# Altium footprint library CONN_PLx.PcbLib: 58 footprints (part 4 of 4)
Each footprint in its own frame and in the unit in brackets; x right, y up, seen from the top. Pads: shape width x height; smd on the part's side, far side on the other; paste and mask are expansions set on the pad; w line width, h text height; cw(c..) or ccw(c..) is an arc to the next point about the centre after c.
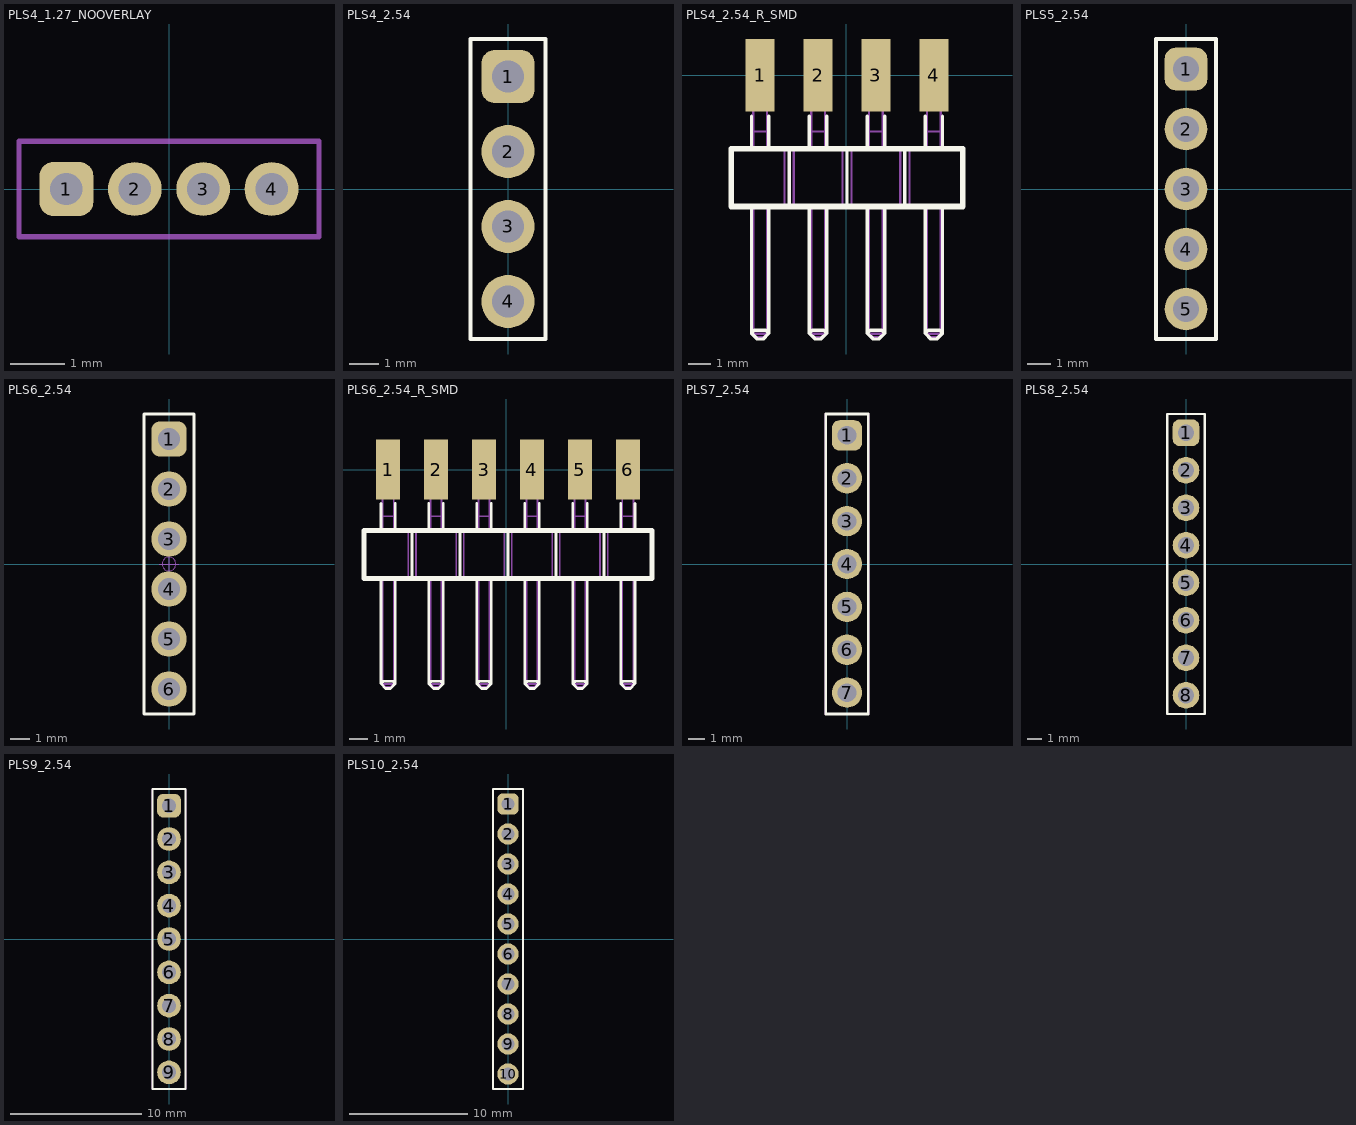
[diagram p3: the footprints below, top view; thin cyan lines are the x and y axes]

## PLS4_1.27_NOOVERLAY [mm]
pads (4):
  rrect50% 1x1 hole 0.6: 1(-1.905,0)
  round 1 hole 0.6: 2(-0.635,0) 3(0.635,0) 4(1.905,0)
Mechanical 14:
  lines w0.1: -2.785,-0.889 2.785,-0.889 2.785,0.889 -2.785,0.889 -2.785,-0.889
  text ".Designator" at -1.905,-0.381 h0.7

## PLS4_2.54 [mm]
pads (4):
  rrect50% 1.8x1.8 hole 1.1: 1(0,3.81)
  round 1.8 hole 1.1: 2(0,1.27) 3(0,-1.27) 4(0,-3.81)
Top Overlay:
  lines w0.15: -1.27,-5.08 -1.27,5.08 1.27,5.08 1.27,-5.08 -1.27,-5.08
Mechanical 14:
  lines w0.1: -1.27,-5.08 1.27,-5.08 1.27,5.08 -1.27,5.08 -1.27,-5.08
  text ".Designator" at -0.508,-0.254 h0.7
3D body "User Library-PLS-1.STEP": height 8.44, standoff -3, extent -1.27,-5.08 1.27,-2.54
3D body "User Library-PLS-1.STEP": height 8.44, standoff -3, extent -1.27,-2.54 1.27,0
3D body "User Library-PLS-1.STEP": height 8.44, standoff -3, extent -1.27,0 1.27,2.54
3D body "User Library-PLS-1.STEP": height 8.44, standoff -3, extent -1.27,2.54 1.27,5.08

## PLS4_2.54_R_SMD [mm] "Pin List, 2.54mm, Surface Mount, Angled"
height 3.05
pads (4):
  rect 1.27x3.18 smd: 1(-3.77,0) 2(-1.23,0) 3(1.31,0) 4(3.85,0)
Top Overlay:
  lines w0.15: -4.151,-5.766 -4.151,-11.324 ; -4.151,-3.226 -4.151,-1.8 ; -3.389,-5.766 -3.389,-11.324 ; -3.389,-3.226 -3.389,-1.8 ; -2.5,-5.766 -2.5,-3.226 ; -1.611,-5.766 -1.611,-11.324 ; -1.611,-3.226 -1.611,-1.8 ; -0.849,-5.766 -0.849,-11.324 ; -0.849,-3.226 -0.849,-1.8 ; 0.04,-5.766 0.04,-3.226 ; 0.929,-5.766 0.929,-11.324 ; 0.929,-3.226 0.929,-1.8 ; 1.691,-5.766 1.691,-11.324 ; 1.691,-3.226 1.691,-1.8 ; 2.58,-5.766 2.58,-3.226 ; 3.469,-5.766 3.469,-11.324 ; 3.469,-3.226 3.469,-1.8 ; 4.231,-5.766 4.231,-11.324 ; 4.231,-3.226 4.231,-1.8 ; -4.151,-11.324 -3.897,-11.578 -3.643,-11.578 -3.389,-11.324 ; -4.151,-11.324 -4.024,-11.197 -3.516,-11.197 -3.389,-11.324 ; -1.611,-11.324 -1.357,-11.578 -1.103,-11.578 -0.849,-11.324 ; -1.611,-11.324 -1.484,-11.197 -0.976,-11.197 -0.849,-11.324 ; 0.929,-11.324 1.183,-11.578 1.437,-11.578 1.691,-11.324 ; 0.929,-11.324 1.056,-11.197 1.564,-11.197 1.691,-11.324 ; 3.469,-11.324 3.723,-11.578 3.977,-11.578 4.231,-11.324 ; 3.469,-11.324 3.596,-11.197 4.104,-11.197 4.231,-11.324
  lines w0.254: -5.04,-5.766 -5.04,-3.226 5.12,-3.226 5.12,-5.766 -5.04,-5.766
Mechanical 15:
  lines w0.1: -4.07,-5.766 -4.07,-11.347 ; -4.07,-3.226 -4.07,0.85 ; -4.07,-2.466 -3.47,-2.466 ; -4.07,-0.464 -3.47,-0.464 ; -3.47,-5.766 -3.47,-11.347 ; -3.47,-3.226 -3.47,0.85 ; -2.7,-5.766 -2.7,-3.226 ; -2.3,-5.766 -2.3,-3.226 ; -1.53,-5.766 -1.53,-11.347 ; -1.53,-3.226 -1.53,0.85 ; -1.53,-2.466 -0.93,-2.466 ; -1.53,-0.464 -0.93,-0.464 ; -0.93,-5.766 -0.93,-11.347 ; -0.93,-3.226 -0.93,0.85 ; -0.16,-5.766 -0.16,-3.226 ; 0.24,-5.766 0.24,-3.226 ; 1.01,-5.766 1.01,-11.347 ; 1.01,-3.226 1.01,0.85 ; 1.01,-2.466 1.61,-2.466 ; 1.01,-0.464 1.61,-0.464 ; 1.61,-5.766 1.61,-11.347 ; 1.61,-3.226 1.61,0.85 ; 2.38,-5.766 2.38,-3.226 ; 2.78,-5.766 2.78,-3.226 ; 3.55,-5.766 3.55,-11.347 ; 3.55,-3.226 3.55,0.85 ; 3.55,-2.466 4.15,-2.466 ; 3.55,-0.464 4.15,-0.464 ; 4.15,-5.766 4.15,-11.347 ; 4.15,-3.226 4.15,0.85 ; -4.07,-11.347 -3.47,-11.347 ; -4.07,-11.347 -3.92,-11.497 -3.62,-11.497 -3.47,-11.347 ; -4.07,0.85 -3.47,0.85 ; -4.07,0.85 -3.92,1 -3.62,1 -3.47,0.85 ; -1.53,-11.347 -0.93,-11.347 ; -1.53,-11.347 -1.38,-11.497 -1.08,-11.497 -0.93,-11.347 ; -1.53,0.85 -0.93,0.85 ; -1.53,0.85 -1.38,1 -1.08,1 -0.93,0.85 ; 1.01,-11.347 1.61,-11.347 ; 1.01,-11.347 1.16,-11.497 1.46,-11.497 1.61,-11.347 ; 1.01,0.85 1.61,0.85 ; 1.01,0.85 1.16,1 1.46,1 1.61,0.85 ; 3.55,-11.347 4.15,-11.347 ; 3.55,-11.347 3.7,-11.497 4,-11.497 4.15,-11.347 ; 3.55,0.85 4.15,0.85 ; 3.55,0.85 3.7,1 4,1 4.15,0.85 ; -5.04,-5.766 5.12,-5.766 5.12,-3.226 -5.04,-3.226 -5.04,-5.766
  text ".Designator" at -3.604,-4.959 h0.38
3D body "Samtec-TSM-102-01-L-SH-A.step": height 3.03, standoff -1.41, extent -5.06,-11.605 0.02,1.349
3D body "Samtec-TSM-102-01-L-SH-A.step": height 3.03, standoff -1.41, extent 0.02,-11.605 5.1,1.349

## PLS5_2.54 [mm]
pads (5):
  rrect50% 1.8x1.8 hole 1.1: 1(0,5.08)
  round 1.8 hole 1.1: 2(0,2.54) 3(0,0) 4(0,-2.54) 5(0,-5.08)
Top Overlay:
  lines w0.15: -1.27,-6.35 1.27,-6.35 1.27,6.35 -1.27,6.35 -1.27,-6.35
Mechanical 14:
  lines w0.1: -1.27,-6.35 -1.27,6.35 1.27,6.35 1.27,-6.35 -1.27,-6.35
  text ".Designator" at -0.508,-0.762 h0.7
3D body "User Library-PLS-1.STEP": height 8.44, standoff -3, extent -1.27,-6.35 1.27,-3.81
3D body "User Library-PLS-1.STEP": height 8.44, standoff -3, extent -1.27,3.81 1.27,6.35
3D body "User Library-PLS-1.STEP": height 8.44, standoff -3, extent -1.27,1.27 1.27,3.81
3D body "User Library-PLS-1.STEP": height 8.44, standoff -3, extent -1.27,-1.27 1.27,1.27
3D body "User Library-PLS-1.STEP": height 8.44, standoff -3, extent -1.27,-3.81 1.27,-1.27

## PLS6_2.54 [mm]
pads (6):
  rrect50% 1.8x1.8 hole 1.1: 1(0,6.35)
  round 1.8 hole 1.1: 2(0,3.81) 3(0,1.27) 4(0,-1.27) 5(0,-3.81) 6(0,-6.35)
Top Overlay:
  lines w0.15: -1.27,-7.62 -1.27,7.62 1.27,7.62 1.27,-7.62 -1.27,-7.62
Mechanical 14:
  lines w0.1: -1.27,-7.62 1.27,-7.62 1.27,7.62 -1.27,7.62 -1.27,-7.62
  text ".Designator" at -0.508,-0.254 h0.7
Mechanical 15:
  circle w0.05: c0,0 r0.35
  lines w0.05: -0.5,0 0.5,0 ; 0,-0.46 0,0.46 ; -1.27,-7.62 1.27,-7.62 1.27,7.62 -1.27,7.62 -1.27,-7.62
3D body "User Library-PLS-1.STEP": height 8.44, standoff -3, extent -1.27,-2.54 1.27,0
3D body "User Library-PLS-1.STEP": height 8.44, standoff -3, extent -1.27,0 1.27,2.54
3D body "User Library-PLS-1.STEP": height 8.44, standoff -3, extent -1.27,2.54 1.27,5.08
3D body "User Library-PLS-1.STEP": height 8.44, standoff -3, extent -1.27,5.08 1.27,7.62
3D body "User Library-PLS-1.STEP": height 8.44, standoff -3, extent -1.27,-5.08 1.27,-2.54
3D body "User Library-PLS-1.STEP": height 8.44, standoff -3, extent -1.27,-7.62 1.27,-5.08

## PLS6_2.54_R_SMD [mm] "Pin List, 2.54mm, Surface Mount, Angled"
height 3.05
pads (6):
  rect 1.27x3.18 smd: 1(-6.27,0) 2(-3.73,0) 3(-1.19,0) 4(1.35,0) 5(3.89,0) 6(6.43,0)
Top Overlay:
  lines w0.15: -6.651,-5.766 -6.651,-11.324 ; -6.651,-3.226 -6.651,-1.8 ; -5.889,-5.766 -5.889,-11.324 ; -5.889,-3.226 -5.889,-1.8 ; -5,-5.766 -5,-3.226 ; -4.111,-5.766 -4.111,-11.324 ; -4.111,-3.226 -4.111,-1.8 ; -3.349,-5.766 -3.349,-11.324 ; -3.349,-3.226 -3.349,-1.8 ; -2.46,-5.766 -2.46,-3.226 ; -1.571,-5.766 -1.571,-11.324 ; -1.571,-3.226 -1.571,-1.8 ; -0.809,-5.766 -0.809,-11.324 ; -0.809,-3.226 -0.809,-1.8 ; 0.08,-5.766 0.08,-3.226 ; 0.969,-5.766 0.969,-11.324 ; 0.969,-3.226 0.969,-1.8 ; 1.731,-5.766 1.731,-11.324 ; 1.731,-3.226 1.731,-1.8 ; 2.62,-5.766 2.62,-3.226 ; 3.509,-5.766 3.509,-11.324 ; 3.509,-3.226 3.509,-1.8 ; 4.271,-5.766 4.271,-11.324 ; 4.271,-3.226 4.271,-1.8 ; 5.16,-5.766 5.16,-3.226 ; 6.049,-5.766 6.049,-11.324 ; 6.049,-3.226 6.049,-1.8 ; 6.811,-5.766 6.811,-11.324 ; 6.811,-3.226 6.811,-1.8 ; -6.651,-11.324 -6.524,-11.197 -6.016,-11.197 -5.889,-11.324 ; -6.651,-11.324 -6.397,-11.578 -6.143,-11.578 -5.889,-11.324 ; -4.111,-11.324 -3.984,-11.197 -3.476,-11.197 -3.349,-11.324 ; -4.111,-11.324 -3.857,-11.578 -3.603,-11.578 -3.349,-11.324 ; -1.571,-11.324 -1.444,-11.197 -0.936,-11.197 -0.809,-11.324 ; -1.571,-11.324 -1.317,-11.578 -1.063,-11.578 -0.809,-11.324 ; 0.969,-11.324 1.096,-11.197 1.604,-11.197 1.731,-11.324 ; 0.969,-11.324 1.223,-11.578 1.477,-11.578 1.731,-11.324 ; 3.509,-11.324 3.636,-11.197 4.144,-11.197 4.271,-11.324 ; 3.509,-11.324 3.763,-11.578 4.017,-11.578 4.271,-11.324 ; 6.049,-11.324 6.176,-11.197 6.684,-11.197 6.811,-11.324 ; 6.049,-11.324 6.303,-11.578 6.557,-11.578 6.811,-11.324
  lines w0.254: -7.54,-5.766 7.7,-5.766 7.7,-3.226 -7.54,-3.226 -7.54,-5.766
Mechanical 15:
  lines w0.1: -6.57,-5.766 -6.57,-11.347 ; -6.57,-3.226 -6.57,0.85 ; -6.57,-2.466 -5.97,-2.466 ; -6.57,-0.464 -5.97,-0.464 ; -5.97,-5.766 -5.97,-11.347 ; -5.97,-3.226 -5.97,0.85 ; -5.2,-5.766 -5.2,-3.226 ; -4.8,-5.766 -4.8,-3.226 ; -4.03,-5.766 -4.03,-11.347 ; -4.03,-3.226 -4.03,0.85 ; -4.03,-2.466 -3.43,-2.466 ; -4.03,-0.464 -3.43,-0.464 ; -3.43,-5.766 -3.43,-11.347 ; -3.43,-3.226 -3.43,0.85 ; -2.66,-5.766 -2.66,-3.226 ; -2.26,-5.766 -2.26,-3.226 ; -1.49,-5.766 -1.49,-11.347 ; -1.49,-3.226 -1.49,0.85 ; -1.49,-2.466 -0.89,-2.466 ; -1.49,-0.464 -0.89,-0.464 ; -0.89,-5.766 -0.89,-11.347 ; -0.89,-3.226 -0.89,0.85 ; -0.12,-5.766 -0.12,-3.226 ; 0.28,-5.766 0.28,-3.226 ; 1.05,-5.766 1.05,-11.347 ; 1.05,-3.226 1.05,0.85 ; 1.05,-2.466 1.65,-2.466 ; 1.05,-0.464 1.65,-0.464 ; 1.65,-5.766 1.65,-11.347 ; 1.65,-3.226 1.65,0.85 ; 2.42,-5.766 2.42,-3.226 ; 2.82,-5.766 2.82,-3.226 ; 3.59,-5.766 3.59,-11.347 ; 3.59,-3.226 3.59,0.85 ; 3.59,-2.466 4.19,-2.466 ; 3.59,-0.464 4.19,-0.464 ; 4.19,-5.766 4.19,-11.347 ; 4.19,-3.226 4.19,0.85 ; 4.96,-5.766 4.96,-3.226 ; 5.36,-5.766 5.36,-3.226 ; 6.13,-5.766 6.13,-11.347 ; 6.13,-3.226 6.13,0.85 ; 6.13,-2.466 6.73,-2.466 ; 6.13,-0.464 6.73,-0.464 ; 6.73,-5.766 6.73,-11.347 ; 6.73,-3.226 6.73,0.85 ; 7.7,-5.766 7.7,-3.226 ; -6.57,-11.347 -5.97,-11.347 ; -6.57,-11.347 -6.42,-11.497 -6.12,-11.497 -5.97,-11.347 ; -6.57,0.85 -5.97,0.85 ; -6.57,0.85 -6.42,1 -6.12,1 -5.97,0.85 ; -4.03,-11.347 -3.88,-11.497 -3.58,-11.497 -3.43,-11.347 ; -4.03,-11.347 -3.43,-11.347 ; -4.03,0.85 -3.88,1 -3.58,1 -3.43,0.85 ; -4.03,0.85 -3.43,0.85 ; -1.49,-11.347 -1.34,-11.497 -1.04,-11.497 -0.89,-11.347 ; -1.49,-11.347 -0.89,-11.347 ; -1.49,0.85 -1.34,1 -1.04,1 -0.89,0.85 ; -1.49,0.85 -0.89,0.85 ; 1.05,-11.347 1.2,-11.497 1.5,-11.497 1.65,-11.347 ; 1.05,-11.347 1.65,-11.347 ; 1.05,0.85 1.2,1 1.5,1 1.65,0.85 ; 1.05,0.85 1.65,0.85 ; 3.59,-11.347 4.19,-11.347 ; 3.59,-11.347 3.74,-11.497 4.04,-11.497 4.19,-11.347 ; 3.59,0.85 4.19,0.85 ; 3.59,0.85 3.74,1 4.04,1 4.19,0.85 ; 6.13,-11.347 6.28,-11.497 6.58,-11.497 6.73,-11.347 ; 6.13,-11.347 6.73,-11.347 ; 6.13,0.85 6.28,1 6.58,1 6.73,0.85 ; 6.13,0.85 6.73,0.85 ; -7.54,-5.766 2.62,-5.766 2.62,-3.226 -7.54,-3.226 -7.54,-5.766
  text ".Designator" at -6.104,-4.959 h0.38
3D body "Samtec-TSM-102-01-L-SH-A.step": height 3.03, standoff -1.41, extent 2.6,-11.605 7.68,1.349
3D body "Samtec-TSM-102-01-L-SH-A.step": height 3.03, standoff -1.41, extent -2.48,-11.605 2.6,1.349
3D body "Samtec-TSM-102-01-L-SH-A.step": height 3.03, standoff -1.41, extent -7.56,-11.605 -2.48,1.349

## PLS7_2.54 [mm]
pads (7):
  rrect50% 1.8x1.8 hole 1.1: 1(0,7.62)
  round 1.8 hole 1.1: 2(0,5.08) 3(0,2.54) 4(0,0) 5(0,-2.54) 6(0,-5.08) 7(0,-7.62)
Top Overlay:
  lines w0.15: -1.27,-8.89 -1.27,8.89 1.27,8.89 1.27,-8.89 -1.27,-8.89
Mechanical 14:
  lines w0.1: -1.27,-8.89 1.27,-8.89 1.27,8.89 -1.27,8.89 -1.27,-8.89
  text ".Designator" at -0.254,-0.254 h0.7
3D body "User Library-PLS-1.STEP": height 8.44, standoff -3, extent -1.27,-1.27 1.27,1.27
3D body "User Library-PLS-1.STEP": height 8.44, standoff -3, extent -1.27,1.27 1.27,3.81
3D body "User Library-PLS-1.STEP": height 8.44, standoff -3, extent -1.27,3.81 1.27,6.35
3D body "User Library-PLS-1.STEP": height 8.44, standoff -3, extent -1.27,6.35 1.27,8.89
3D body "User Library-PLS-1.STEP": height 8.44, standoff -3, extent -1.27,-3.81 1.27,-1.27
3D body "User Library-PLS-1.STEP": height 8.44, standoff -3, extent -1.27,-6.35 1.27,-3.81
3D body "User Library-PLS-1.STEP": height 8.44, standoff -3, extent -1.27,-8.89 1.27,-6.35

## PLS8_2.54 [mm]
pads (8):
  rrect50% 1.8x1.8 hole 1.1: 1(0,8.89)
  round 1.8 hole 1.1: 2(0,6.35) 3(0,3.81) 4(0,1.27) 5(0,-1.27) 6(0,-3.81) 7(0,-6.35) 8(0,-8.89)
Top Overlay:
  lines w0.15: -1.27,-10.16 -1.27,10.16 1.27,10.16 1.27,-10.16 -1.27,-10.16
Mechanical 14:
  lines w0.1: -1.27,-10.16 1.27,-10.16 1.27,10.16 -1.27,10.16 -1.27,-10.16
  text ".Designator" at 0,0 h0.7
3D body "User Library-PLS-1.STEP": height 8.44, standoff -3, extent -1.27,-10.16 1.27,-7.62
3D body "User Library-PLS-1.STEP": height 8.44, standoff -3, extent -1.27,-5.08 1.27,-2.54
3D body "User Library-PLS-1.STEP": height 8.44, standoff -3, extent -1.27,-7.62 1.27,-5.08
3D body "User Library-PLS-1.STEP": height 8.44, standoff -3, extent -1.27,0 1.27,2.54
3D body "User Library-PLS-1.STEP": height 8.44, standoff -3, extent -1.27,2.54 1.27,5.08
3D body "User Library-PLS-1.STEP": height 8.44, standoff -3, extent -1.27,5.08 1.27,7.62
3D body "User Library-PLS-1.STEP": height 8.44, standoff -3, extent -1.27,7.62 1.27,10.16
3D body "User Library-PLS-1.STEP": height 8.44, standoff -3, extent -1.27,-2.54 1.27,0

## PLS9_2.54 [mm]
pads (9):
  rrect50% 1.8x1.8 hole 1.1: 1(0,10.16)
  round 1.8 hole 1.1: 2(0,7.62) 3(0,5.08) 4(0,2.54) 5(0,0) 6(0,-2.54) 7(0,-5.08) 8(0,-7.62) 9(0,-10.16)
Top Overlay:
  lines w0.15: -1.27,-11.43 -1.27,11.43 1.27,11.43 1.27,-11.43 -1.27,-11.43
Mechanical 14:
  lines w0.1: -1.27,-11.43 1.27,-11.43 1.27,11.43 -1.27,11.43 -1.27,-11.43
  text ".Designator" at -0.254,-0.254 h0.7
3D body "User Library-PLS-1.STEP": height 8.44, standoff -3, extent -1.27,-11.43 1.27,-8.89
3D body "User Library-PLS-1.STEP": height 8.44, standoff -3, extent -1.27,-8.89 1.27,-6.35
3D body "User Library-PLS-1.STEP": height 8.44, standoff -3, extent -1.27,-3.81 1.27,-1.27
3D body "User Library-PLS-1.STEP": height 8.44, standoff -3, extent -1.27,-6.35 1.27,-3.81
3D body "User Library-PLS-1.STEP": height 8.44, standoff -3, extent -1.27,1.27 1.27,3.81
3D body "User Library-PLS-1.STEP": height 8.44, standoff -3, extent -1.27,3.81 1.27,6.35
3D body "User Library-PLS-1.STEP": height 8.44, standoff -3, extent -1.27,6.35 1.27,8.89
3D body "User Library-PLS-1.STEP": height 8.44, standoff -3, extent -1.27,8.89 1.27,11.43
3D body "User Library-PLS-1.STEP": height 8.44, standoff -3, extent -1.27,-1.27 1.27,1.27

## PLS10_2.54 [mm]
pads (10):
  rrect50% 1.8x1.8 hole 1.1: 1(0,11.43)
  round 1.8 hole 1.1: 2(0,8.89) 3(0,6.35) 4(0,3.81) 5(0,1.27) 6(0,-1.27) 7(0,-3.81) 8(0,-6.35) 9(0,-8.89) 10(0,-11.43)
Top Overlay:
  lines w0.15: -1.27,-12.7 -1.27,12.7 1.27,12.7 1.27,-12.7 -1.27,-12.7
Mechanical 14:
  lines w0.1: -1.27,-12.7 1.27,-12.7 1.27,12.7 -1.27,12.7 -1.27,-12.7
  text ".Designator" at -0.508,-0.254 h0.7
3D body "User Library-PLS-1.STEP": height 8.44, standoff -3, extent -1.27,-10.16 1.27,-7.62
3D body "User Library-PLS-1.STEP": height 8.44, standoff -3, extent -1.27,-7.62 1.27,-5.08
3D body "User Library-PLS-1.STEP": height 8.44, standoff -3, extent -1.27,-2.54 1.27,0
3D body "User Library-PLS-1.STEP": height 8.44, standoff -3, extent -1.27,-5.08 1.27,-2.54
3D body "User Library-PLS-1.STEP": height 8.44, standoff -3, extent -1.27,2.54 1.27,5.08
3D body "User Library-PLS-1.STEP": height 8.44, standoff -3, extent -1.27,5.08 1.27,7.62
3D body "User Library-PLS-1.STEP": height 8.44, standoff -3, extent -1.27,7.62 1.27,10.16
3D body "User Library-PLS-1.STEP": height 8.44, standoff -3, extent -1.27,10.16 1.27,12.7
3D body "User Library-PLS-1.STEP": height 8.44, standoff -3, extent -1.27,0 1.27,2.54
3D body "User Library-PLS-1.STEP": height 8.44, standoff -3, extent -1.27,-12.7 1.27,-10.16